# Altium footprint library 3.20-电池、蜂鸣器、测试焊盘.PcbLib: 55 footprints (part 2 of 4)
Each footprint in its own frame and in the unit in brackets; x right, y up, seen from the top. Pads: shape width x height; smd on the part's side, far side on the other; paste and mask are expansions set on the pad; w line width, h text height; cw(c..) or ccw(c..) is an arc to the next point about the centre after c.
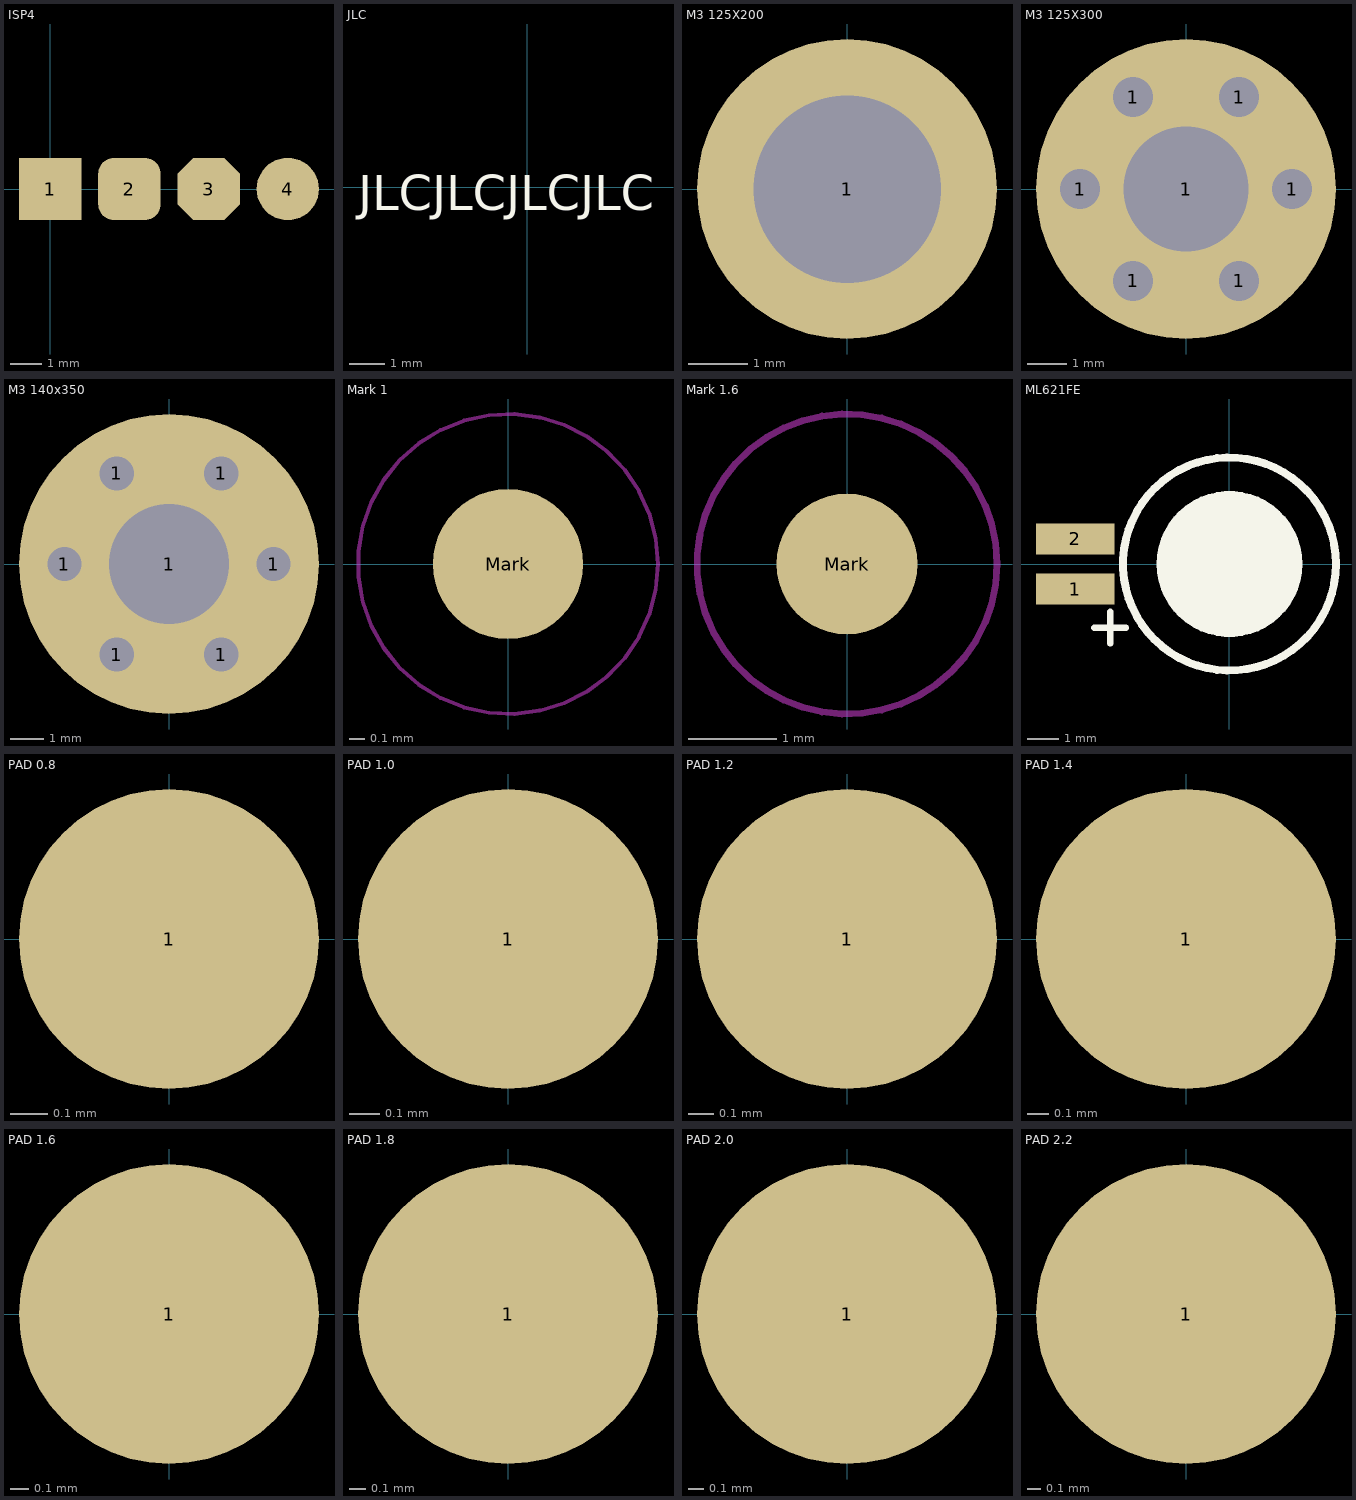
[diagram p1: the footprints below, top view; thin cyan lines are the x and y axes]

## ISP4 [mm] "4P测试点"
pads (4):
  rect 2x2 smd: 1(0,0)
  rrect50% 2x2 smd: 2(2.54,0)
  oct 2x2 smd: 3(5.08,0)
  round 2 smd: 4(7.62,0)

## JLC [mm] "嘉立创客编"
Top Overlay:
  text "JLCJLCJLCJLC" at -4.826,-0.65 h1

## M3 125X200 [mm] "M3螺丝孔，孔125Mil，焊盘200Mil"
pads (1):
  round 5.08 hole 3.175: 1(0,0)

## M3 125X300 [mil] "M3螺丝孔，孔125Mil，焊盘300Mil"
pads (7):
  round 40 hole 40: 1(-106,0) 1(-53,-91.8) 1(-53,91.8) 1(53,-91.8) 1(53,91.8) 1(106,0)
  round 300 hole 125: 1(0,0)

## M3 140x350 [mil] "M3螺丝孔，孔140Mil，焊盘350Mil"
pads (7):
  round 35 hole 40: 1(-122,0) 1(-61,-105.66) 1(-61,105.66) 1(61,-105.66) 1(61,105.66) 1(122,0)
  round 350 hole 140: 1(0,0)

## Mark 1 [mm] "光学定位点，直径1mm"
pads (1):
  round 1 smd paste+0 mask+0.5: Mark(0,0)
Top Layer keep-out:
  circle w0.025: c0,0 r1

## Mark 1.6 [mm] "光学定位点，直径1.6mm"
pads (1):
  round 1.6 smd paste-1.6 mask+0.9: Mark(0,0)
Top Layer keep-out:
  circle w0.076: c0,0 r1.704

## ML621FE [mm] "可充电纽扣电池"
pads (2):
  rect 2.5x1 smd: 1(-4.927,-0.8) 2(-4.927,0.8)
Top Overlay:
  circle w0.254: c0,0 r3.4
  circle w0.254: c0,0 r2.2
  circle w2.2: c0,0 r1.024
  lines w0.203: -4.318,-2.032 -3.302,-2.032 ; -3.81,-2.54 -3.81,-1.524
Mechanical 15:
  circle w0.05: c0,0 r0.35
  lines w0.05: -0.5,0 0.5,0 ; 0,-0.5 0,0.5
3D body "ML621FE.STEP": height 2.05, standoff -0.35, extent -5.5,-3.398 3.398,3.398

## PAD 0.8 [mm] "测试点0.8mm"
pads (1):
  round 0.8 smd: 1(0,0)

## PAD 1.0 [mm] "测试点1.0mm"
pads (1):
  round 1 smd paste-1: 1(0,0)

## PAD 1.2 [mm] "测试点1.2mm"
pads (1):
  round 1.2 smd paste-1.2: 1(0,0)

## PAD 1.4 [mm] "测试点1.4mm"
pads (1):
  round 1.4 smd paste-1.4: 1(0,0)

## PAD 1.6 [mm] "测试点1.6mm"
pads (1):
  round 1.6 smd paste-1.6: 1(0,0)

## PAD 1.8 [mm] "测试点1.8mm"
pads (1):
  round 1.8 smd paste-1.8: 1(0,0)

## PAD 2.0 [mm] "测试点2.0mm"
pads (1):
  round 2 smd paste-2: 1(0,0)

## PAD 2.2 [mm] "测试点2.2mm"
pads (1):
  round 2.2 smd paste-2.2: 1(0,0)